# EAGLE library part LTC2942 (library ArdDisp)
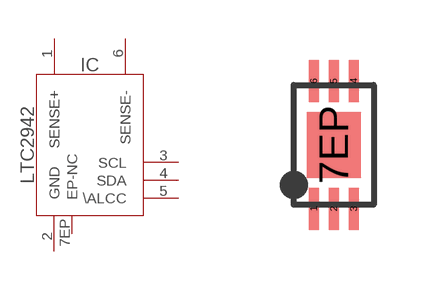
[diagram p25: symbol with the pads of DFN6EP; footprint DFN6EP]

Designator prefix IC

## LTC2942  [DFN6EP]
1  SENSE+  in
2  GND  in
3  SCL  in
4  SDA  in
5  \ALCC  oc
6  SENSE-  in
7EP  EP-NC  nc

## Footprint DFN6EP (pad centres in mm)
smd 0.25 x 1.05: 1 -0.5,-1.6; 2 0,-1.6; 3 0.5,-1.6; 4 0.5,1.6; 5 0,1.6; 6 -0.5,1.6
smd 1.35 x 1.65: 7EP 0,0